# EAGLE library part PRO_MICRO_SMD (library Arduino)
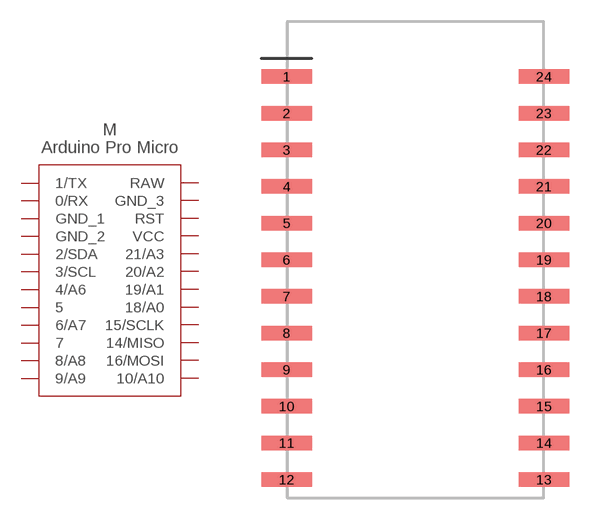
[diagram p0: symbol with the pads of PRO_MICRO_SMD; footprint PRO_MICRO_SMD]

Designator prefix M

## PRO_MICRO_SMD  [PRO_MICRO_SMD]
1  1/TX
2  0/RX
3  GND_1
4  GND_2
5  2/SDA
6  3/SCL
7  4/A6
8  5
9  6/A7
10  7
11  8/A8
12  9/A9
13  10/A10
14  16/MOSI
15  14/MISO
16  15/SCLK
17  18/A0
18  19/A1
19  20/A2
20  21/A3
21  VCC
22  RST
23  GND_3
24  RAW

## Footprint PRO_MICRO_SMD (pad centres in mm)
smd 3.5 x 1: 1 -8.92,13.97; 2 -8.92,11.43; 3 -8.92,8.89; 4 -8.92,6.35; 5 -8.92,3.81; 6 -8.92,1.27; 7 -8.92,-1.27; 8 -8.92,-3.81; 9 -8.92,-6.35; 10 -8.92,-8.89; 11 -8.92,-11.43; 12 -8.92,-13.97; 13 8.92,-13.97; 14 8.92,-11.43; 15 8.92,-8.89; 16 8.92,-6.35; 17 8.92,-3.81; 18 8.92,-1.27; 19 8.92,1.27; 20 8.92,3.81; 21 8.92,6.35; 22 8.92,8.89; 23 8.92,11.43; 24 8.92,13.97